# EAGLE library part IP4234CZ6 (library mille-feuille)
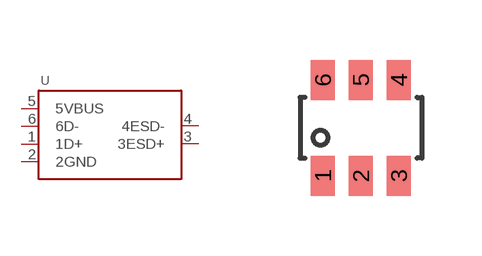
[diagram p31: symbol with the pads of TSOP6; footprint TSOP6]

Designator prefix U

## IP4234CZ6  [TSOP6]
1  1D+
2  2GND
3  3ESD+
4  4ESD-
5  5VBUS
6  6D-

## Footprint TSOP6 (pad centres in mm)
smd 0.6 x 1: 1 -0.95,-1.2; 2 0,-1.2; 3 0.95,-1.2; 4 0.95,1.2; 5 0,1.2; 6 -0.95,1.2